# Altium footprint library KU1.PcbLib: 2 footprints
Each footprint in its own frame and in the unit in brackets; x right, y up, seen from the top. Pads: shape width x height; smd on the part's side, far side on the other; paste and mask are expansions set on the pad; w line width, h text height; cw(c..) or ccw(c..) is an arc to the next point about the centre after c.
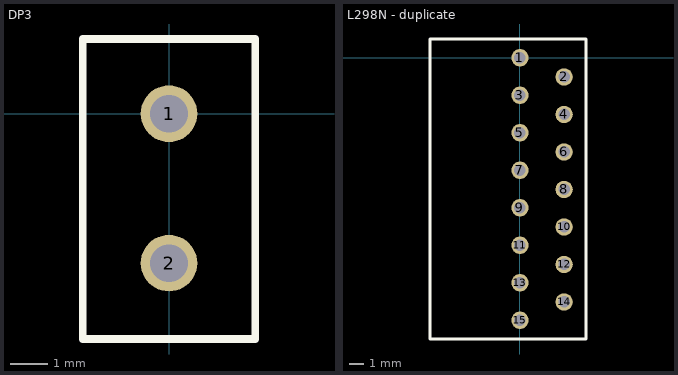
[diagram p0: the footprints below, top view; thin cyan lines are the x and y axes]

## DP3 [mm]
pads (2):
  round 1.5 hole 1: 1(0,0) 2(0,-3.96)
Top Overlay:
  lines w0.2: -2.286,-5.969 -2.286,1.98 2.286,1.98 2.286,-5.969 -2.286,-5.969

## L298N - duplicate [mm]
pads (15):
  round 1.2 hole 0.8: 1(0,0) 2(3.068,-1.33) 3(0,-2.6) 4(3.068,-3.93) 5(0,-5.2) 6(3.068,-6.53) 7(0,-7.8) 8(3.068,-9.13) 9(0,-10.4) 10(3.068,-11.73) 11(0,-13) 12(3.068,-14.33) 13(0,-15.6) 14(3.068,-16.93) 15(0,-18.2)
Top Overlay:
  lines w0.2: -6.223,-19.5 -6.223,1.3 4.572,1.3 4.572,-19.5 -6.223,-19.5